# EAGLE library part WE-GDTI (library wurth_elektronik_passive_rev16d)
SMD Gate Drive Transformer -1 or 2 secondary windings -6 turrns ration -2500 Vac testing voltage -Operating voltage up tp 250V --Gate Drive --Signal --Power <http://katalog.we-online.de/media/images/eisos/UtGDTI_pf2.jpg> Details see: http://katalog.we-online.de/en/pbs/WE-GDTI? Created by Dan Xu 2014-05-19 2014 (C) Wurth Elektronik
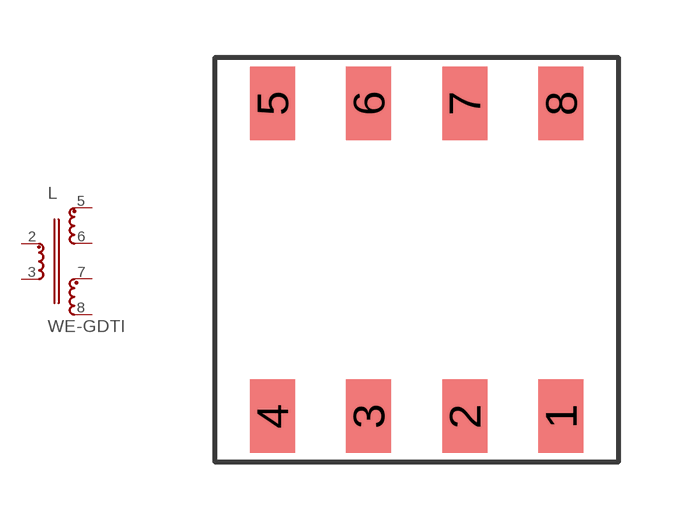
[diagram p10: symbol with the pads of WE-GDTI_EP7; footprint WE-GDTI_EP7]

Designator prefix L

## WE-GDTI_760301301_EP7, WE-GDTI_760301303_EP7, WE-GDTI_760301304_EP7, WE-GDTI_760301305_EP7, WE-GDTI_760301306_EP7  [WE-GDTI_EP7]
2  1  pas
3  6  pas
5  2  pas
6  3  pas
7  4  pas
8  5  pas

## Footprint WE-GDTI_EP7 (pad centres in mm)
SMD Gate Drive Transformer Size EP7 Height 11.00 mm Max
smd 1.17 x 1.91: 1 3.75,-4.065; 2 1.25,-4.065; 3 -1.25,-4.065; 4 -3.75,-4.065; 5 -3.75,4.065; 6 -1.25,4.065; 7 1.25,4.065; 8 3.75,4.065